# EAGLE library part IC-74VHC594TTR (library Namenlos)
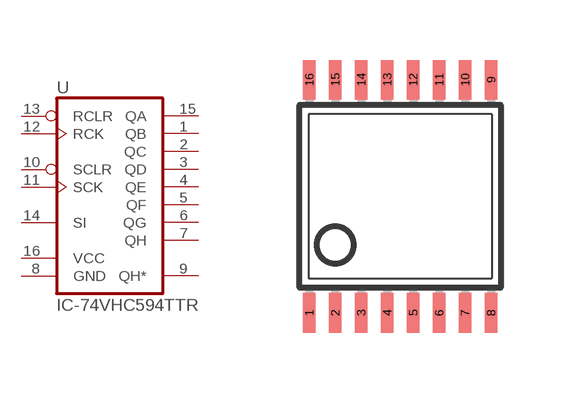
[diagram p6: symbol with the pads of TSSOP16; footprint TSSOP16]

Designator prefix -

## IC-74VHC594TTR  [TSSOP16]
1  QB  out
2  QC  out
3  QD  out
4  QE  out
5  QF  out
6  QG  out
7  QH  out
8  GND
9  QH*  out
10  SCLR  in
11  SCK  in
12  RCK  in
13  RCLR  in
14  SI  in
15  QA  out
16  VCC

## Footprint TSSOP16 (pad centres in mm)
smd 0.305 x 0.991: 1 -2.275,-2.918; 2 -1.625,-2.918; 3 -0.975,-2.918; 4 -0.325,-2.918; 5 0.325,-2.918; 6 0.975,-2.918; 7 1.625,-2.918; 8 2.275,-2.918; 9 2.275,2.918; 10 1.625,2.918; 11 0.975,2.918; 12 0.325,2.918; 13 -0.325,2.918; 14 -0.975,2.918; 15 -1.625,2.918; 16 -2.275,2.918